# EAGLE library part NRF24L01+ (library nrf24l01+)
When using the DUAL version of this library, make sure to not connect pin 1 if you are using the 10 pin module.
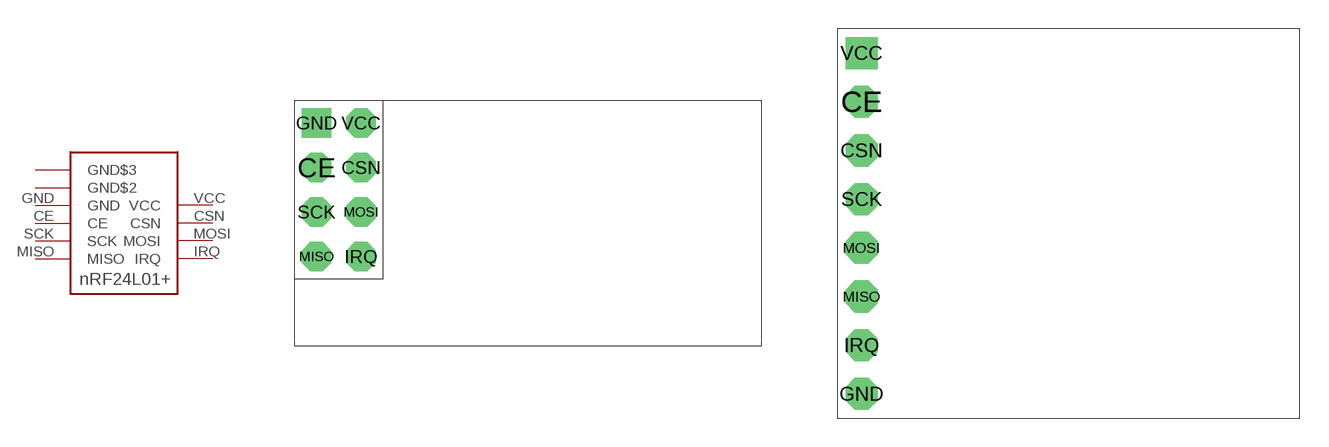
[diagram p0: symbol with the pads of CHINESE; footprints CHINESE, SPARKFUN]

Designator prefix CHINESE

## NRF24L01+CHINESE-8PIN  [CHINESE]
CE  CE
CSN  CSN
GND  GND
IRQ  IRQ
MISO  MISO
MOSI  MOSI
SCK  SCK
VCC  VCC

## NRF24L01+SPARKFUN  [SPARKFUN]
Pads as for CHINESE

## NRF24L01+CHINESE-10PIN  [CHINESE-10PIN]
CE  CE
CSN  CSN
GND$1  GND
GND$2  GND$2
IRQ  IRQ
MISO  MISO
MOSI  MOSI
SCK  SCK
VCC$1  VCC

## NRF24L01+CHINESE-DUAL  [CHINESE-DUALPINOUT]
CE  CE
CSN  CSN
GND$1  GND
GND$2  GND$2
GND$3  GND$3
IRQ  IRQ
MISO  MISO
MOSI  MOSI
SCK  SCK
VCC  VCC

## Footprint CHINESE (pad centres in mm)
these are the little black chinese nrf modules
drill 1 pad 1.676 octagon: CE 0,-2.54; CSN 2.54,-2.54; IRQ 2.54,-7.62; MISO 0,-7.62; MOSI 2.54,-5.08; SCK 0,-5.08; VCC 2.54,0
drill 1 pad 1.676 square: GND 0,0

## Footprint SPARKFUN (pad centres in mm)
drill 1 pad 1.676 octagon: CE 0,15.24; CSN 0,12.7; GND 0,0; IRQ 0,2.54; MISO 0,5.08; MOSI 0,7.62; SCK 0,10.16
drill 1 pad 1.676 square: VCC 0,17.78

## Footprint CHINESE-10PIN (pad centres in mm)
drill 1 pad 1.676 octagon: CE -1.27,0; CSN 1.27,0; GND$1 -1.27,-7.62; GND$2 1.27,-7.62; IRQ 1.27,-5.08; MISO -1.27,-5.08; MOSI 1.27,-2.54; SCK -1.27,-2.54; VCC$2 1.27,2.54
drill 1 pad 1.676 square: VCC$1 -1.27,2.54

## Footprint CHINESE-DUALPINOUT (pad centres in mm)
drill 1 pad 1.676 octagon: CE -10.16,0; CSN -7.62,0; GND$2 -10.16,-7.62; GND$3 -7.62,-7.62; IRQ -7.62,-5.08; MISO -10.16,-5.08; MOSI -7.62,-2.54; SCK -10.16,-2.54; VCC -7.62,2.54
drill 1 pad 1.676 square: GND$1 -10.16,2.54